# EAGLE library part SAMD20E14A-AUT (library RFiD)
ATSAMD20E edit this description The Atmel® SAM D20 family is a series of low-power, high-performance, ARM®-based embedded flash microcontrollers based on the ARM Cortex®-M0+ 32-bit processor. Operating at a maximum speed of 48MHz, and with a two-stage pipeline, single-cycle I/O access, single-cycle 32x32 multiplier, Event System and a fast and flexible interrupt controller, the SAM D20 series microcontrollers are highly efficient, reaching 2.14 Coremark/MHz – 0.93 DMIPS/MHz.
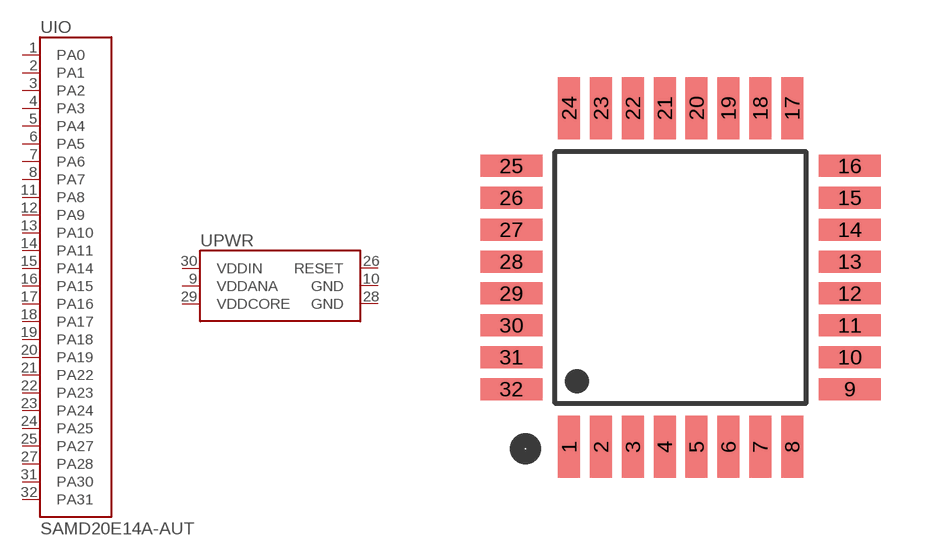
[diagram p5: symbol with the pads of TQFP32; footprint TQFP32]

Designator prefix U; gates IO=ATSAMD20E-A PWR=ATSAMD20E-B

## SAMD20E14A-AUT  [TQFP32]
1  IO:PA0
2  IO:PA1
3  IO:PA2
4  IO:PA3
5  IO:PA4
6  IO:PA5
7  IO:PA6
8  IO:PA7
9  PWR:VDDANA  pwr
10  PWR:GND  pwr
11  IO:PA8
12  IO:PA9
13  IO:PA10
14  IO:PA11
15  IO:PA14
16  IO:PA15
17  IO:PA16
18  IO:PA17
19  IO:PA18
20  IO:PA19
21  IO:PA22
22  IO:PA23
23  IO:PA24
24  IO:PA25
25  IO:PA27
26  PWR:RESET
27  IO:PA28
28  PWR:GND  pwr
29  PWR:VDDCORE  pwr
30  PWR:VDDIN  pwr
31  IO:PA30
32  IO:PA31

## Footprint TQFP32 (pad centres in mm)
smd 0.55 x 1.55: 1 -2.8,-4.25; 2 -2,-4.25; 3 -1.2,-4.25; 4 -0.4,-4.25; 5 0.4,-4.25; 6 1.2,-4.25; 7 2,-4.25; 8 2.8,-4.25; 17 2.8,4.25; 18 2,4.25; 19 1.2,4.25; 20 0.4,4.25; 21 -0.4,4.25; 22 -1.2,4.25; 23 -2,4.25; 24 -2.8,4.25
smd 1.55 x 0.55: 9 4.25,-2.8; 10 4.25,-2; 11 4.25,-1.2; 12 4.25,-0.4; 13 4.25,0.4; 14 4.25,1.2; 15 4.25,2; 16 4.25,2.8; 25 -4.25,2.8; 26 -4.25,2; 27 -4.25,1.2; 28 -4.25,0.4; 29 -4.25,-0.4; 30 -4.25,-1.2; 31 -4.25,-2; 32 -4.25,-2.8